# Altium footprint library KUOZHAN.PcbLib: 64 footprints (part 3 of 4)
Each footprint in its own frame and in the unit in brackets; x right, y up, seen from the top. Pads: shape width x height; smd on the part's side, far side on the other; paste and mask are expansions set on the pad; w line width, h text height; cw(c..) or ccw(c..) is an arc to the next point about the centre after c.
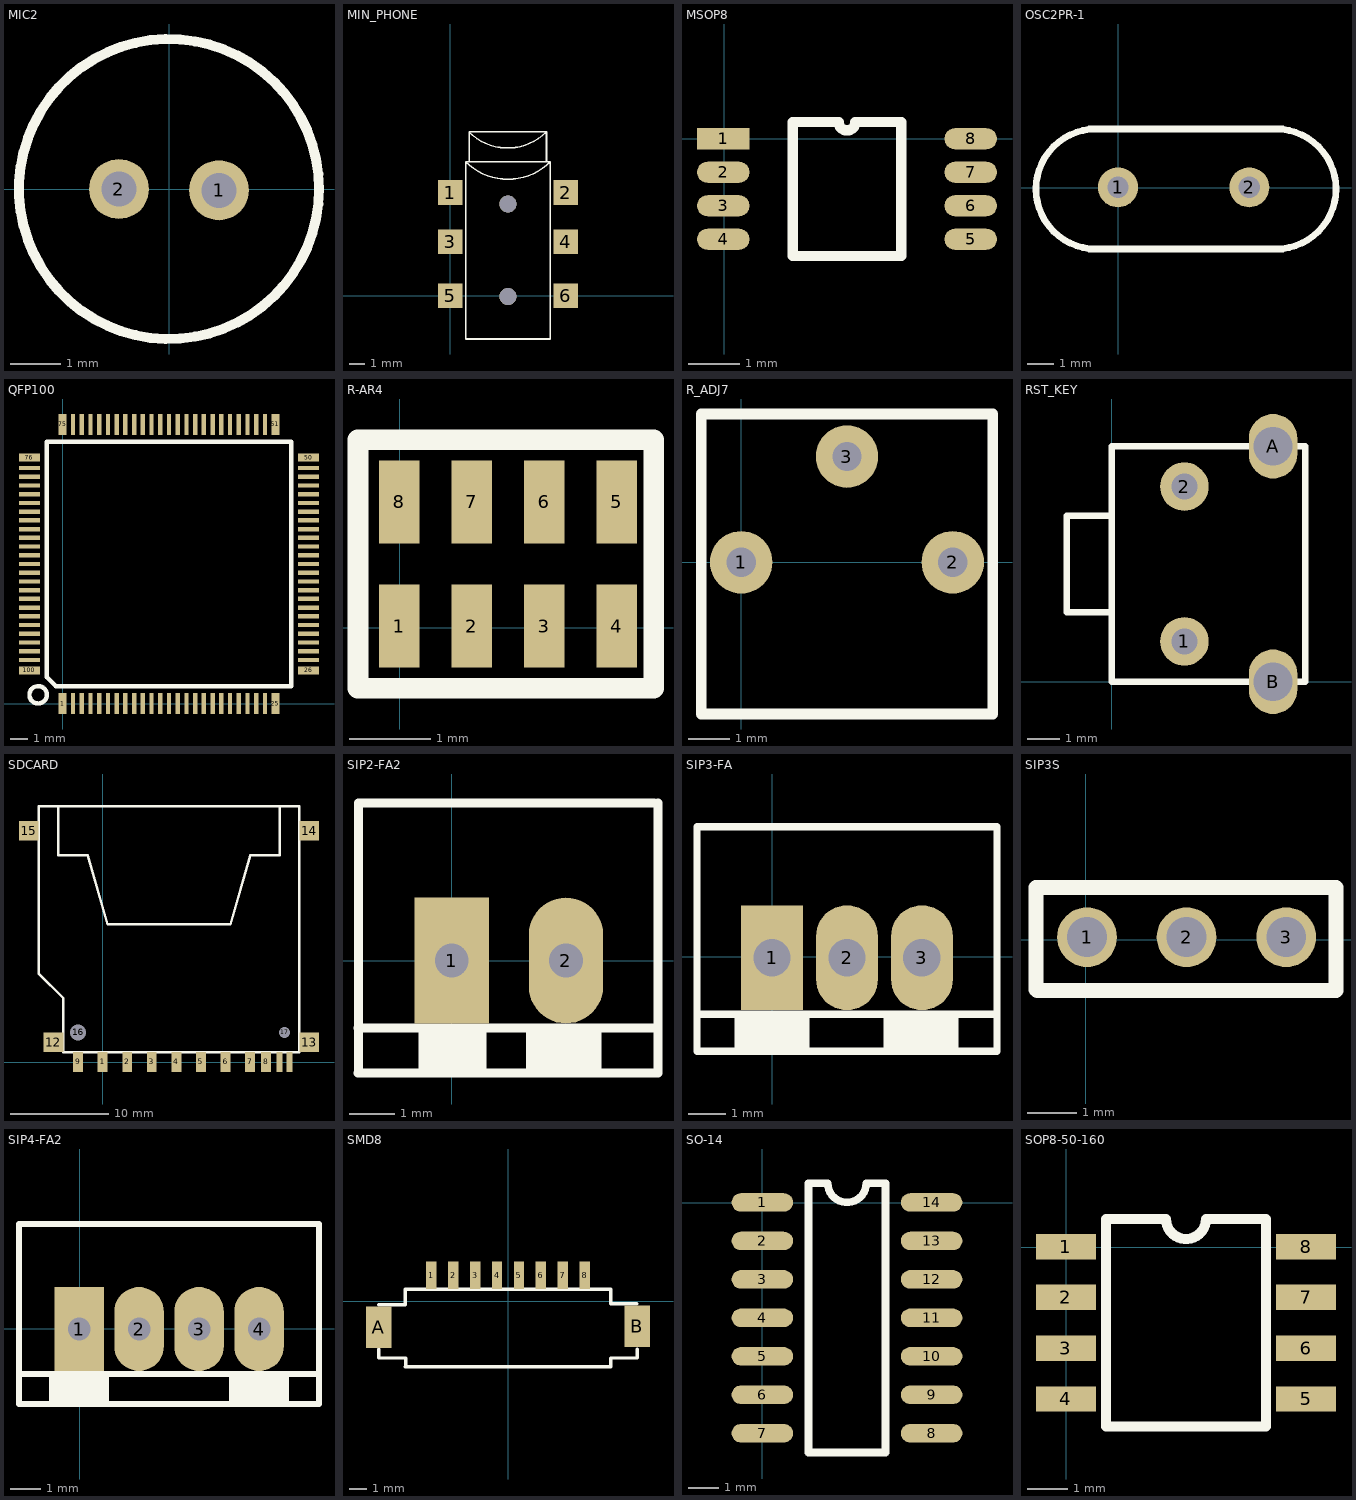
[diagram p2: the footprints below, top view; thin cyan lines are the x and y axes]

## MIC2 [mm]
pads (2):
  round 1.2 hole 0.7: 1(1,-0.025) 2(-1,0)
TopOverlay:
  circle w0.2: c0,0 r3

## MIN_PHONE [mm]
pads (8):
  rect 1.6x1.6 smd: 1(0,6.7) 2(7.508,6.7) 3(0,3.5) 4(7.508,3.5) 5(0,0) 6(7.508,0)
  round 1.1 hole 1.1: ""(3.75,-0.05) ""(3.75,5.955)
TopOverlay:
  lines w0.1: 1.23,10.62 ccw(c3.73,13.12) 6.23,10.62 ; 1.25,8.7 1.25,10.65 6.25,10.65 6.25,8.7 ; 1,8.7 ccw(c3.75,11.45) 6.5,8.7 ; 1,8.7 6.5,8.7 ; 1,8.7 1,-2.8 6.5,-2.8 6.5,8.7

## MSOP8 [mm]
pads (8):
  rect 1.02x0.41 smd: 1(-0.017,-0.002)
  oval 1.02x0.41 smd: 2(-0.017,-0.652) 3(-0.017,-1.302) 4(-0.017,-1.952) 5(4.783,-1.952) 6(4.783,-1.302) 7(4.783,-0.652) 8(4.783,-0.002)
TopOverlay:
  lines w0.2: 1.328,-2.277 1.328,0.323 2.22,0.323 ccw(c2.383,0.323) 2.545,0.323 3.438,0.323 3.438,-2.277 1.328,-2.277

## OSC2PR-1 [mil]
pads (2):
  round 60 hole 32: 1(-0.1,0.32) 2(196.9,0.32)
TopOverlay:
  lines w10: -43.1,-92.18 246.9,-92.18 ; -43.1,87.82 246.9,87.82 ; -33.1,-92.18 cw(c-33.1,-2.18) -33.1,87.82 ; 236.9,-92.18 ccw(c236.9,-2.18) 236.9,87.82

## QFP100 [mm]
pads (100):
  rect 0.45x1.2 smd: 1(-0.011,0.001) 25(12.189,0.001) 51(12.189,16.001) 75(-0.011,16.001)
  rect 0.25x1.2 smd: 2(0.589,0.001) 3(1.089,0.001) 4(1.589,0.001) 5(2.089,0.001) 6(2.589,0.001) 7(3.089,0.001) 8(3.589,0.001) 9(4.089,0.001) 10(4.589,0.001) 11(5.089,0.001) 12(5.589,0.001) 13(6.089,0.001) 14(6.589,0.001) 15(7.089,0.001) 16(7.589,0.001) 17(8.089,0.001) 18(8.589,0.001) 19(9.089,0.001) 20(9.589,0.001) 21(10.089,0.001) 22(10.589,0.001) 23(11.089,0.001) 24(11.589,0.001) 52(11.589,16.001) 53(11.089,16.001) 54(10.589,16.001) 55(10.089,16.001) 56(9.589,16.001) 57(9.089,16.001) 58(8.589,16.001) 59(8.089,16.001) 60(7.589,16.001) 61(7.089,16.001) 62(6.589,16.001) 63(6.089,16.001) 64(5.589,16.001) 65(5.089,16.001) 66(4.589,16.001) 67(4.089,16.001) 68(3.589,16.001) 69(3.089,16.001) 70(2.589,16.001) 71(2.089,16.001) 72(1.589,16.001) 73(1.089,16.001) 74(0.589,16.001)
  rect 1.2x0.45 smd: 26(14.089,1.901) 50(14.089,14.101) 76(-1.911,14.101) 100(-1.911,1.901)
  rect 1.2x0.25 smd: 27(14.089,2.501) 28(14.089,3.001) 29(14.089,3.501) 30(14.089,4.001) 31(14.089,4.501) 32(14.089,5.001) 33(14.089,5.501) 34(14.089,6.001) 35(14.089,6.501) 36(14.089,7.001) 37(14.089,7.501) 38(14.089,8.001) 39(14.089,8.501) 40(14.089,9.001) 41(14.089,9.501) 42(14.089,10.001) 43(14.089,10.501) 44(14.089,11.001) 45(14.089,11.501) 46(14.089,12.001) 47(14.089,12.501) 48(14.089,13.001) 49(14.089,13.501) 77(-1.911,13.501) 78(-1.911,13.001) 79(-1.911,12.501) 80(-1.911,12.001) 81(-1.911,11.501) 82(-1.911,11.001) 83(-1.911,10.501) 84(-1.911,10.001) 85(-1.911,9.501) 86(-1.911,9.001) 87(-1.911,8.501) 88(-1.911,8.001) 89(-1.911,7.501) 90(-1.911,7.001) 91(-1.911,6.501) 92(-1.911,6.001) 93(-1.911,5.501) 94(-1.911,5.001) 95(-1.911,4.501) 96(-1.911,4.001) 97(-1.911,3.501) 98(-1.911,3.001) 99(-1.911,2.501)
TopOverlay:
  circle w0.254: c-1.411,0.501 r0.5
  lines w0.254: -0.911,1.501 -0.411,1.001 13.089,1.001 13.089,15.001 -0.911,15.001 -0.911,1.501

## R-AR4 [mm]
pads (8):
  rect 0.5x1.016 smd: 1(-0.004,0.02) 2(0.885,0.02) 3(1.774,0.02) 4(2.663,0.02) 5(2.663,1.544) 6(1.774,1.544) 7(0.885,1.544) 8(-0.004,1.544)
TopOverlay:
  lines w0.254: 3.069,-0.742 -0.512,-0.742 -0.512,2.306 3.12,2.306 3.12,-0.742

## R_ADJ7 [mm]
pads (3):
  round 1.5 hole 0.7: 1(-0.007,-0.005) 2(5.073,-0.005) 3(2.533,2.535)
TopOverlay:
  lines w0.254: -0.967,-3.645 6.033,-3.645 6.033,3.555 -0.967,3.555 -0.967,-3.605

## RST_KEY [mm]
pads (4):
  round 1.5 hole 0.8: 1(2.257,1.248) 2(2.257,6.048)
  oval 1.5x2 hole 1.2: A(5.007,7.298) B(5.007,-0.002)
TopOverlay:
  lines w0.2: 0.007,2.148 -1.393,2.148 -1.393,5.148 0.007,5.148 ; 0.007,-0.002 6.007,-0.002 6.007,7.298 0.007,7.298 0.007,-0.002

## SDCARD [mm]
pads (17):
  rect 1x2 smd: 1(0.003,0.029) 2(2.503,0.029) 3(5.003,0.029) 4(7.503,0.029) 5(10.003,0.029) 6(12.503,0.029) 7(15.003,0.029) 8(16.628,0.029) 9(-2.497,0.029)
  rect 0.6x2 smd: 10(19.003,0.029) 11(18.003,0.029)
  rect 2x2 smd: 12(-4.997,2.029) 13(21.003,2.029) 14(21.003,23.529) 15(-7.497,23.529)
  round 1.5 hole 1.6: 16(-2.497,3.029)
  round 1 hole 1.1: 17(18.503,3.029)
TopOverlay:
  lines w0.254: -4.497,26.029 -4.497,21.029 -1.497,21.029 0.503,14.029 13.003,14.029 15.003,21.029 18.003,21.029 18.003,26.029 ; -6.497,9.029 -6.497,26.029 20.003,26.029 20.003,1.029 -3.997,1.029 -3.997,6.529 -6.497,9.029

## SIP2-FA2 [mm]
pads (2):
  rect 1.651x2.8 hole 0.75: 1(0,0)
  oval 1.651x2.8 hole 0.75: 2(2.54,0)
TopOverlay:
  region: 0.777,-1.5 -0.745,-1.5 -0.745,-2.5 0.777,-2.5
  region: 3.327,-1.54 1.652,-1.54 1.652,-2.54 3.327,-2.54
  lines w0.2: -2.085,-2.5 4.53,-2.5 ; -2.085,-1.5 4.56,-1.5 ; -2.075,-2.5 -2.075,3.493 ; -2.07,3.5 4.5,3.5 ; 4.587,-2.5 4.587,3.5

## SIP3-FA [mm]
pads (3):
  rect 1.651x2.8 hole 1: 1(-0.002,-0.02)
  oval 1.651x2.8 hole 1: 2(1.998,-0.02) 3(3.998,-0.02)
TopOverlay:
  region: 4.973,-1.52 2.973,-1.52 2.973,-2.52 4.973,-2.52
  region: 0.997,-1.518 -1.003,-1.518 -1.003,-2.518 0.997,-2.518
  lines w0.2: -2.002,-1.52 5.998,-1.52 ; -2.002,-2.52 -2.002,3.48 5.998,3.48 5.998,-2.52 -2.002,-2.52

## SIP3S [mm]
pads (3):
  round 1.2 hole 0.8: 1(0.023,0.055) 2(2.023,0.055) 3(4.023,0.055)
TopOverlay:
  lines w0.305: -1.002,-0.995 -1.002,0.055 -1.002,1.055 5.023,1.055 5.023,-1.02 -0.977,-1.02 -1.002,-0.995

## SIP4-FA2 [mm]
pads (4):
  rect 1.651x2.8 hole 0.75: 1(-0.022,-0.01)
  oval 1.651x2.8 hole 0.75: 2(1.978,-0.01) 3(3.978,-0.01) 4(5.978,-0.01)
TopOverlay:
  region: 0.978,-1.51 -1.022,-1.51 -1.022,-2.51 0.978,-2.51
  region: 6.972,-1.51 4.972,-1.51 4.972,-2.51 6.972,-2.51
  lines w0.2: -2.022,-1.51 7.972,-1.51 ; -2.022,-2.51 7.972,-2.51 7.972,3.49 -2.022,3.49 -2.022,-2.51

## SMD8 [mm]
pads (10):
  rect 0.6x1.6 smd: 1(-4.445,1.512) 2(-3.175,1.512) 3(-1.905,1.512) 4(-0.635,1.512) 5(0.635,1.512) 6(1.905,1.512) 7(3.175,1.512) 8(4.445,1.512)
  rect 1.5x2.4 smd: A(-7.49,-1.512) B(7.49,-1.438)
TopOverlay:
  lines w0.2: -7.49,-2.788 -7.49,-3.287 -5.915,-3.287 -5.915,-3.788 ; -7.49,-0.212 -5.94,-0.212 -5.94,0.687 5.94,0.687 5.94,-0.138 7.465,-0.138 ; -5.94,-3.788 5.94,-3.788 5.94,-3.287 7.49,-3.287 7.49,-2.788

## SO-14 [mil]
pads (14):
  oval 80x24 smd: 1(-0.12,0.1) 2(-0.12,-49.9) 3(-0.12,-99.9) 4(-0.12,-149.9) 5(-0.12,-199.9) 6(-0.12,-249.9) 7(-0.12,-299.9) 8(219.88,-299.9) 9(219.88,-249.9) 10(219.88,-199.9) 11(219.88,-149.9) 12(219.88,-99.9) 13(219.88,-49.9) 14(219.88,0.1)
TopOverlay:
  lines w10: 59.88,-324.9 59.88,25.1 84.88,25.1 ccw(c109.88,25.1) 134.88,25.1 159.88,25.1 159.88,-324.9 59.88,-324.9

## SOP8-50-160 [mm]
pads (8):
  rect 1.5x0.635 smd: 1(-0.002,0.012) 2(-0.002,-1.258) 3(-0.002,-2.528) 4(-0.002,-3.798) 5(5.998,-3.798) 6(5.998,-2.528) 7(5.998,-1.258) 8(5.998,0.012)
TopOverlay:
  lines w0.254: 0.998,-4.488 0.998,0.702 2.498,0.702 ccw(c2.998,0.702) 3.498,0.702 4.998,0.702 4.998,-4.488 0.998,-4.488